# Altium schematic symbol library Schematic_Library.SchLib: 7 symbols
Pins are listed as number, name and electrical type; pins without a type are passive.

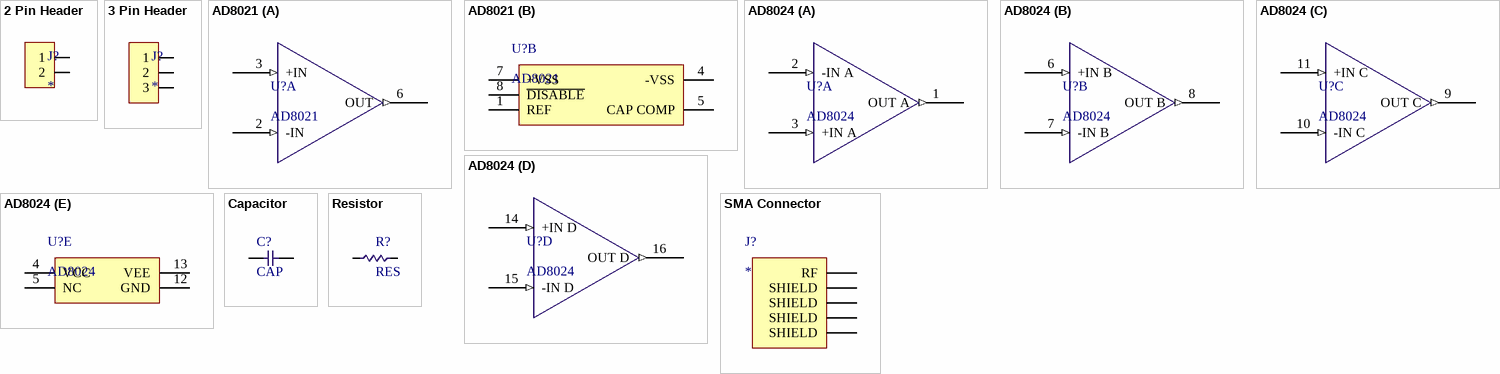
[diagram p0: symbols 2 Pin Header to SMA Connector]

## 2 Pin Header
designator J?
footprint Connector_2POS_2.54mm
footprint Molex 73251-1150
pins: 1, 2

## 3 Pin Header
designator J?
footprint CONNECTOR_3POS_2.54mm
pins: 1, 2, 3

## AD8021
designator U?
footprint TSOP65P490X110-8N (TSOP, 8-Leads, Body 3.00x3.00mm, Pitch 0.65mm, IPC Medium Density)
part A pins: 2 -IN (in), 3 +IN (in), 6 OUT (out)
part B pins: 1 REF, 4 -VSS, 5 CAP COMP, 7 +VSS, 8 ~{DISABLE}

## AD8024
designator U?
footprint SOIC127P600X175-16N (SOIC, 16-Leads, Body 9.90x3.90mm, Pitch 1.27mm, IPC Medium Density)
part A pins: 1 OUT A (out), 2 -IN A (in), 3 +IN A (in)
part B pins: 6 +IN B (in), 7 -IN B (in), 8 OUT B (out)
part C pins: 9 OUT C (out), 10 -IN C (in), 11 +IN C (in)
part D pins: 14 +IN D (in), 15 -IN D (in), 16 OUT D (out)
part E pins: 4 VCC (power), 5 NC, 12 GND (power), 13 VEE (power)

## Capacitor
designator C?, comment CAP
footprint CAPC2012X04N (Chip Capacitor, 2-Leads, Body 2.00x1.20mm, IPC Medium Density)
pins: 1, 2

## Resistor
designator R?, comment RES
footprint RESC2012X04N (Chip Resistor, 2-Leads, Body 2.00x1.20mm, IPC Medium Density)
pins: 1, 2

## SMA Connector
designator J?
footprint Molex 73251-1150
pins: 1 RF, 2 SHIELD, 3 SHIELD, 4 SHIELD, 5 SHIELD